# EAGLE library part _IC_RS232_TRX_3.3V_TSSOP-16_(MAX3232IPWR) (library SamacSys_Parts)
3-V to 5.5-V multichannel RS-232 line driver & receiver Source: Datasheet <http://www.ti.com/lit/gpn/max3232>
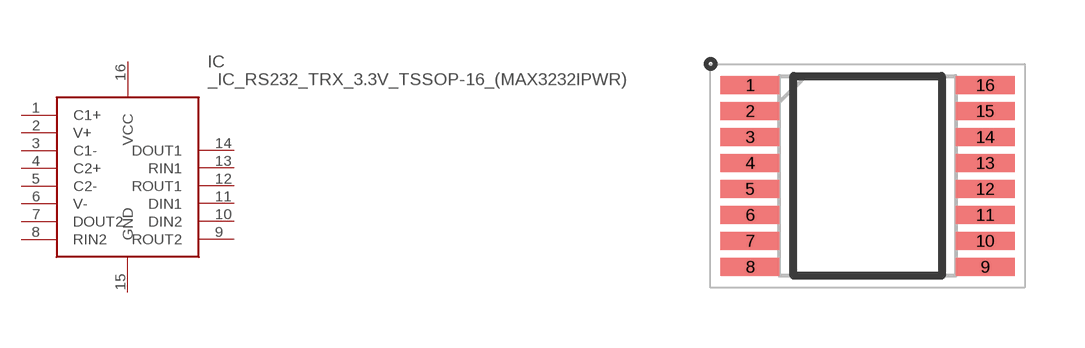
[diagram p17: symbol with the pads of SOP65P640X120-16N; footprint SOP65P640X120-16N]

Designator prefix IC

## _IC_RS232_TRX_3.3V_TSSOP-16_(MAX3232IPWR) (DESCRIPTION: 3-V to 5.5-V multichannel RS-232 line driver & receiver; HEIGHT: 1.2mm; MANUFACTURER_NAME: Texas Instruments; MANUFACTURER_PART_NUMBER: MAX3232IPWR; MOUSER_PART_NUMBER: 595-MAX3232IPWR; MOUSER_PRICE-STOCK: https://www.mouser.co.uk/ProductDetail/Texas-Instruments/MAX3232IPWR?qs=q2XTDbzbm6BbCKEnjxJsdA%3D%3D)  [SOP65P640X120-16N]
1  C1+
2  V+
3  C1-
4  C2+
5  C2-
6  V-
7  DOUT2
8  RIN2
9  ROUT2
10  DIN2
11  DIN1
12  ROUT1
13  RIN1
14  DOUT1
15  GND
16  VCC

## Footprint SOP65P640X120-16N (pad centres in mm)
PW0016A
smd 1.475 x 0.45: 1 -2.938,2.275; 2 -2.938,1.625; 3 -2.938,0.975; 4 -2.938,0.325; 5 -2.938,-0.325; 6 -2.938,-0.975; 7 -2.938,-1.625; 8 -2.938,-2.275; 9 2.938,-2.275; 10 2.938,-1.625; 11 2.938,-0.975; 12 2.938,-0.325; 13 2.938,0.325; 14 2.938,0.975; 15 2.938,1.625; 16 2.938,2.275